# Altium footprint library ESC_PCB.PcbLib: 30 footprints (part 2 of 2)
Each footprint in its own frame and in the unit in brackets; x right, y up, seen from the top. Pads: shape width x height; smd on the part's side, far side on the other; paste and mask are expansions set on the pad; w line width, h text height; cw(c..) or ccw(c..) is an arc to the next point about the centre after c.
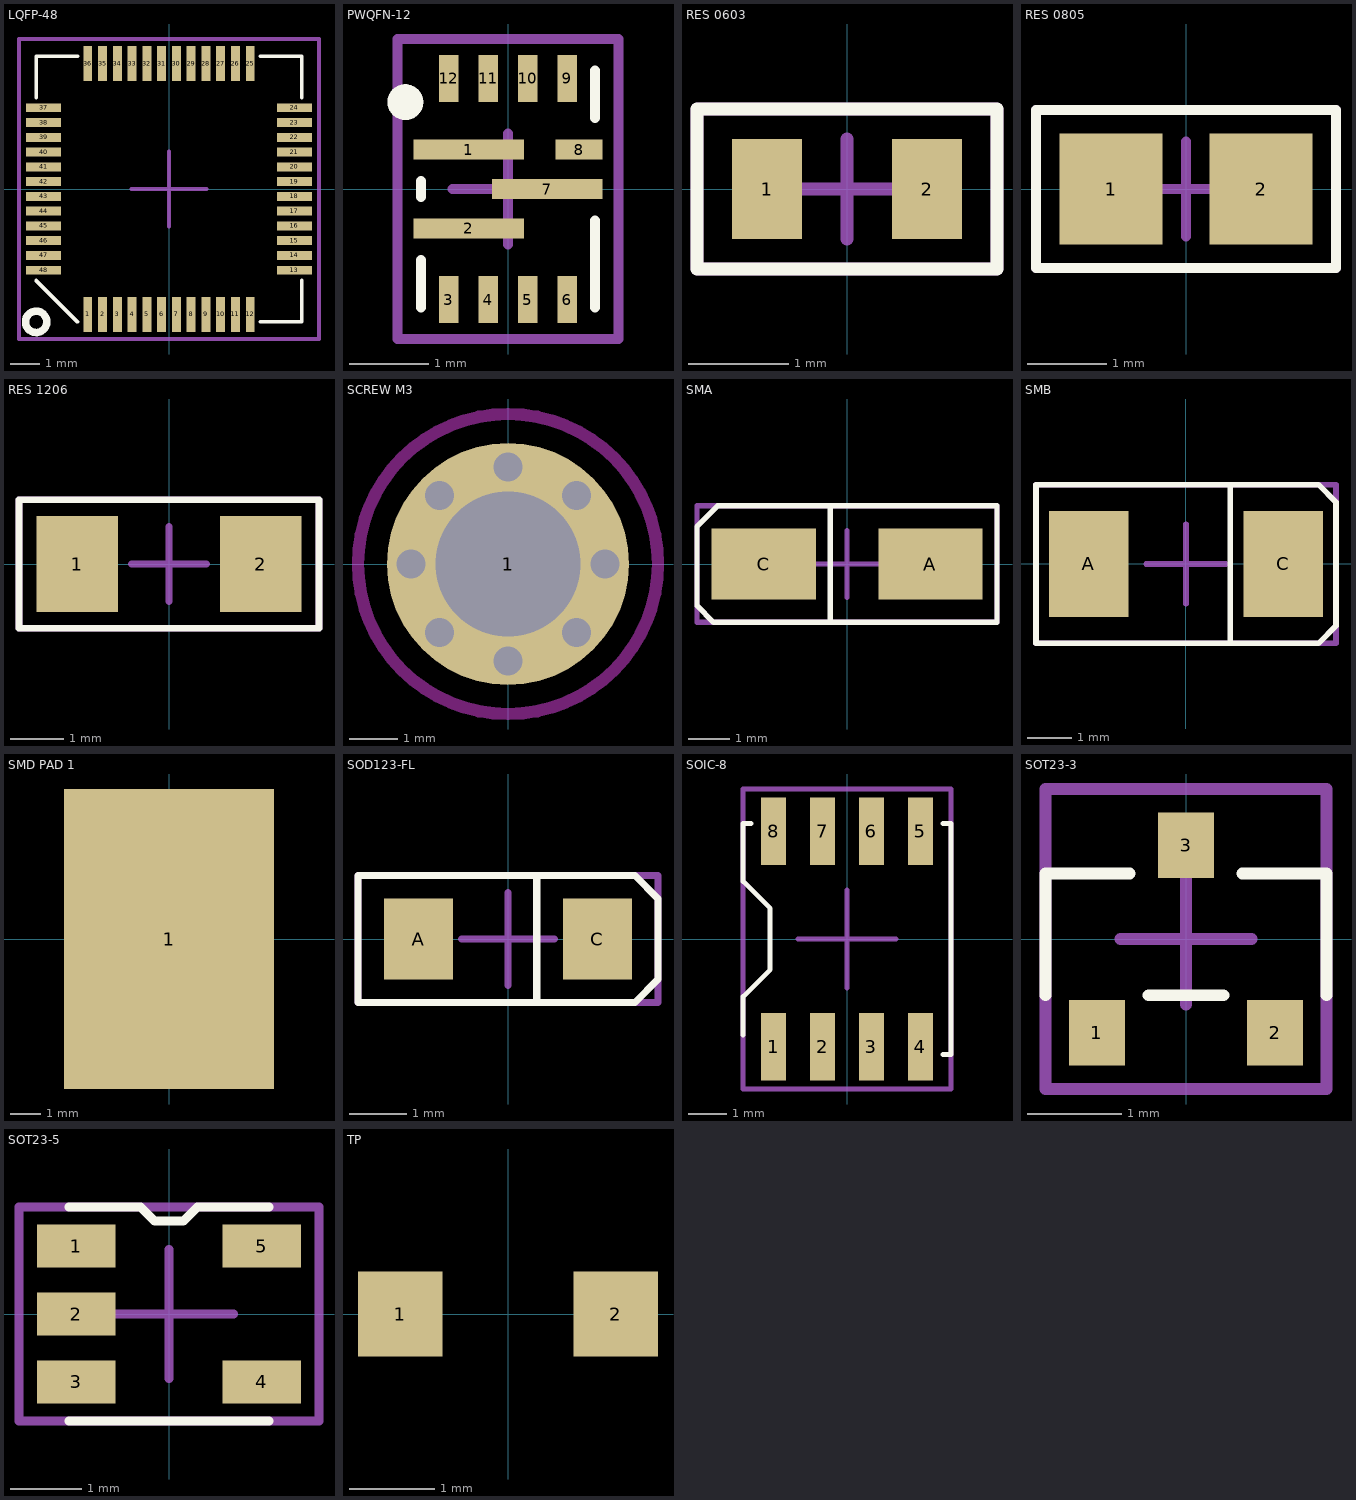
[diagram p1: the footprints below, top view; thin cyan lines are the x and y axes]

## LQFP-48 [mm]
pads (48):
  rect 0.3x1.2 smd: 1(-2.75,-4.25) 2(-2.25,-4.25) 3(-1.75,-4.25) 4(-1.25,-4.25) 5(-0.75,-4.25) 6(-0.25,-4.25) 7(0.25,-4.25) 8(0.75,-4.25) 9(1.25,-4.25) 10(1.75,-4.25) 11(2.25,-4.25) 12(2.75,-4.25) 25(2.75,4.25) 26(2.25,4.25) 27(1.75,4.25) 28(1.25,4.25) 29(0.75,4.25) 30(0.25,4.25) 31(-0.25,4.25) 32(-0.75,4.25) 33(-1.25,4.25) 34(-1.75,4.25) 35(-2.25,4.25) 36(-2.75,4.25)
  rect 1.2x0.3 smd: 13(4.25,-2.75) 14(4.25,-2.25) 15(4.25,-1.75) 16(4.25,-1.25) 17(4.25,-0.75) 18(4.25,-0.25) 19(4.25,0.25) 20(4.25,0.75) 21(4.25,1.25) 22(4.25,1.75) 23(4.25,2.25) 24(4.25,2.75) 37(-4.25,2.75) 38(-4.25,2.25) 39(-4.25,1.75) 40(-4.25,1.25) 41(-4.25,0.75) 42(-4.25,0.25) 43(-4.25,-0.25) 44(-4.25,-0.75) 45(-4.25,-1.25) 46(-4.25,-1.75) 47(-4.25,-2.25) 48(-4.25,-2.75)
Top Overlay:
  circle w0.254: c-4.5,-4.5 r0.361
  lines w0.127: -4.5,-3.1 -3.1,-4.5 ; -4.5,3.1 -4.5,4.5 -3.1,4.5 ; 3.1,-4.5 4.5,-4.5 4.5,-3.1 ; 3.1,4.5 4.5,4.5 4.5,3.1
Top Component Center:
  lines w0.127: -1.27,0 0,0 ; 0,-1.27 0,0 ; 0,1.27 0,0 ; 1.27,0 0,0 ; -5.08,-5.08 0,-5.08 5.08,-5.08 5.08,0 5.08,5.08 0,5.08 -5.08,5.08 -5.08,0 -5.08,-5.08
Top Designator:
  lines w0.127: -5.08,-5.08 0,-5.08 5.08,-5.08 5.08,0 5.08,5.08 0,5.08 -5.08,5.08 -5.08,0 -5.08,-5.08
  text ".Designator" at -1.395,-0.635 h1.52
3D body "LPC11C24FBD48_301.STEP": height 1.6, standoff 0, extent -4.5,-4.5 4.5,4.5

## PWQFN-12 [mm]
pads (12):
  rect 1.4x0.25 smd: 1(-0.5,0.5) 2(-0.5,-0.5) 7(0.5,0)
  rect 0.25x0.6 smd: 3(-0.75,-1.4) 4(-0.25,-1.4) 5(0.25,-1.4) 6(0.75,-1.4) 9(0.75,1.4) 10(0.25,1.4) 11(-0.25,1.4) 12(-0.75,1.4)
  rect 0.6x0.25 smd: 8(0.9,0.5)
Top Overlay:
  circle w0.254: c-1.3,1.1 r0.1
  lines w0.127: -1.1,-1.5 -1.1,-0.9 ; -1.1,-0.1 -1.1,0.1 ; 1.1,-1.5 1.1,-0.4 ; 1.1,0.9 1.1,1.5
Top Component Center:
  lines w0.127: -0.7,0 0,0 ; 0,-0.7 0,0 ; 0,0.7 0,0 ; 0.7,0 0,0 ; -1.4,-1.9 0,-1.9 1.4,-1.9 1.4,1.9 -1.4,1.9 -1.4,-1.9
Top Designator:
  lines w0.127: -1.4,-1.9 -1.4,1.9 1.4,1.9 1.4,-1.9 0,-1.9 -1.4,-1.9
  text ".Designator" at -0.648,-0.294 h0.76
3D body "TPS51385RJNR.STEP": height 1, standoff 0, extent -1,-1.5 1,1.5

## RES 0603 [mm]
pads (2):
  rect 0.7x1 smd: 1(-0.8,0) 2(0.8,0)
Top Overlay:
  lines w0.127: -1.5,-0.8 0,-0.8 1.5,-0.8 1.5,0 1.5,0.8 0,0.8 -1.5,0.8 -1.5,0 -1.5,-0.8
Top Component Center:
  lines w0.127: -0.5,0 0,0 ; 0,-0.5 0,0 ; 0,0.5 0,0 ; 0.5,0 0,0 ; -1.5,-0.8 -1.5,0.8 1.5,0.8 1.5,-0.8 -1.5,-0.8
Top Designator:
  lines w0.127: -1.5,-0.8 -1.5,0.8 1.5,0.8 1.5,-0.8 -1.5,-0.8
  text ".Designator" at -0.748,-0.294 h0.76
3D body "RC0603FR-1375RL.STEP": height 0.9, standoff 0, extent -0.8,-0.4 0.8,0.4

## RES 0805 [mm]
pads (2):
  rect 1.3x1.4 smd: 1(-0.95,0) 2(0.95,0)
Top Overlay:
  lines w0.127: -1.9,-1 0,-1 1.9,-1 1.9,0 1.9,1 0,1 -1.9,1 -1.9,0 -1.9,-1
Top Component Center:
  lines w0.127: -0.6,0 0,0 ; 0,-0.6 0,0 ; 0,0.6 0,0 ; 0.6,0 0,0 ; -1.9,-1 -1.9,0 -1.9,1 0,1 1.9,1 1.9,0 1.9,-1 0,-1 -1.9,-1
Top Designator:
  lines w0.127: -1.9,-1 -1.9,0 -1.9,1 0,1 1.9,1 1.9,0 1.9,-1 0,-1 -1.9,-1
  text ".Designator" at -0.748,-0.294 h0.76
3D body "CRGCQ0805J330R.STEP": height 0.65, standoff 0, extent -1,-0.625 1,0.625

## RES 1206 [mm]
pads (2):
  rect 1.52x1.8 smd: 1(-1.71,0) 2(1.71,0)
Top Overlay:
  lines w0.127: -2.8,-1.2 -2.8,0 -2.8,1.2 0,1.2 2.8,1.2 2.8,0 2.8,-1.2 0,-1.2 -2.8,-1.2
Top Component Center:
  lines w0.127: -0.7,0 0,0 ; 0,-0.7 0,0 ; 0,0.7 0,0 ; 0.7,0 0,0 ; -2.8,-1.2 2.8,-1.2 2.8,1.2 0,1.2 -2.8,1.2 -2.8,-1.2
Top Designator:
  lines w0.127: -2.8,-1.2 2.8,-1.2 2.8,1.2 0,1.2 -2.8,1.2 -2.8,-1.2
  text ".Designator" at -0.648,-0.294 h0.76
3D body "RMCF1206FT1K00.STEP": height 0.7, standoff 0, extent -1.6,-0.8 1.6,0.8

## SCREW M3 [mm]
pads (9):
  round 0 hole 0.6: 1(-2,0) 1(-1.414,-1.414) 1(-1.414,1.414) 1(0,-2) 1(0,2) 1(1.414,-1.414) 1(1.414,1.414) 1(2,0)
  round 5 hole 3: 1(0,0)
Keep-Out Layer:
  circle w0.254: c0,0 r3.1

## SMA [mm]
pads (2):
  rect 2.5x1.7 smd: A(2,0) C(-2,0)
Top Overlay:
  lines w0.127: -0.4,-1.4 -0.4,1.4 ; -3.6,-1 -3.2,-1.4 0.2,-1.4 3.6,-1.4 3.6,0 3.6,1.4 -0.2,1.4 -3.1,1.4 -3.6,0.9 -3.6,-1
Top Component Center:
  lines w0.127: -0.8,0 0,0 ; 0,-0.8 0,0 ; 0,0.8 0,0 ; 0.8,0 0,0 ; -3.6,-1.4 -3.6,1.4 -0.4,1.4 3.6,1.4 3.6,-1.4 -3.6,-1.4
Top Designator:
  lines w0.127: -3.6,-1.4 -3.6,1.4 -0.4,1.4 3.6,1.4 3.6,-1.4 -3.6,-1.4
  text ".Designator" at -0.748,-0.294 h0.76
3D body "S1J-13-F.step": height 2.4, standoff 0, extent -2.598,-1.302 2.598,1.302

## SMB [mm]
pads (2):
  rect 1.8x2.4 smd: A(-2.2,0) C(2.2,0)
Top Overlay:
  lines w0.127: 1,-1.8 1,1.8 ; -3.4,-1.8 -0.3,-1.8 3,-1.8 3.4,-1.4 3.4,0 3.4,1.4 3,1.8 0.3,1.8 -3.4,1.8 -3.4,0 -3.4,-1.8
Top Component Center:
  lines w0.127: -0.9,0 0,0 ; 0,-0.9 0,0 ; 0,0.9 0,0 ; 0.9,0 0,0 ; -3.4,-1.8 3.4,-1.8 3.4,1.8 0,1.8 -3.4,1.8 -3.4,-1.8
Top Designator:
  lines w0.127: -3.4,-1.8 -3.4,1.8 0,1.8 3.4,1.8 3.4,-1.8 -3.4,-1.8
  text ".Designator" at -0.448,-0.294 h0.76
3D body "RS2G.STEP": height 2.65, standoff 0, extent -2.675,-1.813 2.675,1.813

## SMD PAD 1 [mm]
pads (1):
  rect 7x10 smd: 1(0,0)

## SOD123-FL [mm]
pads (2):
  rect 1.2x1.4 smd: A(-1.55,0) C(1.55,0)
Top Overlay:
  lines w0.127: 0.5,-1.1 0.5,1.1 ; -2.6,-1.1 -2.6,1.1 0,1.1 2.2,1.1 2.6,0.7 2.6,-0.7 2.2,-1.1 0,-1.1 -2.6,-1.1
Top Component Center:
  lines w0.127: -0.8,0 0,0 ; 0,-0.8 0,0 ; 0,0.8 0,0 ; 0.8,0 0,0 ; -2.6,-1.1 -2.6,1.1 0,1.1 2.6,1.1 2.6,-1.1 -2.6,-1.1
Top Designator:
  lines w0.127: -2.6,-1.1 -2.6,1.1 0,1.1 2.6,1.1 2.6,-1.1 -2.6,-1.1
  text ".Designator" at -0.548,-0.294 h0.76
3D body "SS24FL.step": height 1.08, standoff 0, extent -1.8,-0.863 1.8,0.863

## SOIC-8 [mm]
pads (8):
  rect 0.65x1.75 smd: 1(-1.905,-2.8) 2(-0.635,-2.8) 3(0.635,-2.8) 4(1.905,-2.8) 5(1.905,2.8) 6(0.635,2.8) 7(-0.635,2.8) 8(-1.905,2.8)
Top Overlay:
  lines w0.127: -2.7,-2.5 -2.7,-1.5 -2,-0.8 -2,0.8 -2.7,1.5 -2.7,3 -2.5,3 ; 2.5,-3 2.7,-3 2.7,0 2.7,3 2.5,3
Top Component Center:
  lines w0.127: -1.27,0 0,0 ; 0,-1.27 0,0 ; 0,1.27 0,0 ; 1.27,0 0,0 ; -2.7,-3.9 -2.7,0 -2.7,3.9 0,3.9 2.7,3.9 2.7,0 2.7,-3.9 0,-3.9 -2.7,-3.9
Top Designator:
  lines w0.127: -2.7,-3.9 0,-3.9 2.7,-3.9 2.7,0 2.7,3.9 0,3.9 -2.7,3.9 -2.7,0 -2.7,-3.9
  text ".Designator" at -0.548,-0.194 h0.76
3D body "CAT24C256WI-GT3.STEP": height 1.75, standoff 0, extent -2.45,-3 2.45,3

## SOT23-3 [mm]
pads (3):
  rect 0.6x0.7 smd: 1(-0.95,-1) 2(0.95,-1) 3(0,1)
Top Overlay:
  lines w0.127: -1.5,-0.6 -1.5,0.7 -0.6,0.7 ; -0.4,-0.6 0,-0.6 0.4,-0.6 ; 0.6,0.7 1.5,0.7 1.5,-0.6
Top Component Center:
  lines w0.127: -0.7,0 0,0 ; 0,-0.7 0,0 ; 0,0.7 0,0 ; 0.7,0 0,0 ; -1.5,-1.6 1.5,-1.6 1.5,0 1.5,1.6 -1.5,1.6 -1.5,0 -1.5,-1.6
Top Designator:
  lines w0.127: -1.5,-1.6 1.5,-1.6 1.5,0 1.5,1.6 -1.5,1.6 -1.5,0 -1.5,-1.6
  text ".Designator" at -0.648,-0.394 h0.76
3D body "MMBT3904LT1G.step": height 1.11, standoff 0, extent -1.45,-1.2 1.45,1.2

## SOT23-5 [mm]
pads (5):
  rect 1.1x0.6 smd: 1(-1.3,0.95) 2(-1.3,0) 3(-1.3,-0.95) 4(1.3,-0.95) 5(1.3,0.95)
Top Overlay:
  lines w0.127: -1.4,-1.5 -0.4,-1.5 -0.2,-1.5 0.4,-1.5 1.4,-1.5 ; -1.4,1.5 -0.4,1.5 -0.2,1.3 0,1.3 0.2,1.3 0.4,1.5 1.4,1.5
Top Component Center:
  lines w0.127: -0.9,0 0,0 ; 0,-0.9 0,0 ; 0,0.9 0,0 ; 0.9,0 0,0 ; -2.1,-1.5 0,-1.5 2.1,-1.5 2.1,1.5 0,1.5 -2.1,1.5 -2.1,-1.5
Top Designator:
  lines w0.127: -2.1,-1.5 0,-1.5 2.1,-1.5 2.1,1.5 0,1.5 -2.1,1.5 -2.1,-1.5
  text ".Designator" at -0.448,-0.294 h0.76
3D body "MAX6320PUK46BY_V+.STEP": height 1.45, standoff 0, extent -1.4,-1.45 1.4,1.45

## TP [mm]
pads (2):
  rect 1x1 smd: 1(-1.27,0) 2(1.27,0)